# Altium footprint library NEW.PcbLib: 69 footprints (part 1 of 5)
Each footprint in its own frame and in the unit in brackets; x right, y up, seen from the top. Pads: shape width x height; smd on the part's side, far side on the other; paste and mask are expansions set on the pad; w line width, h text height; cw(c..) or ccw(c..) is an arc to the next point about the centre after c.
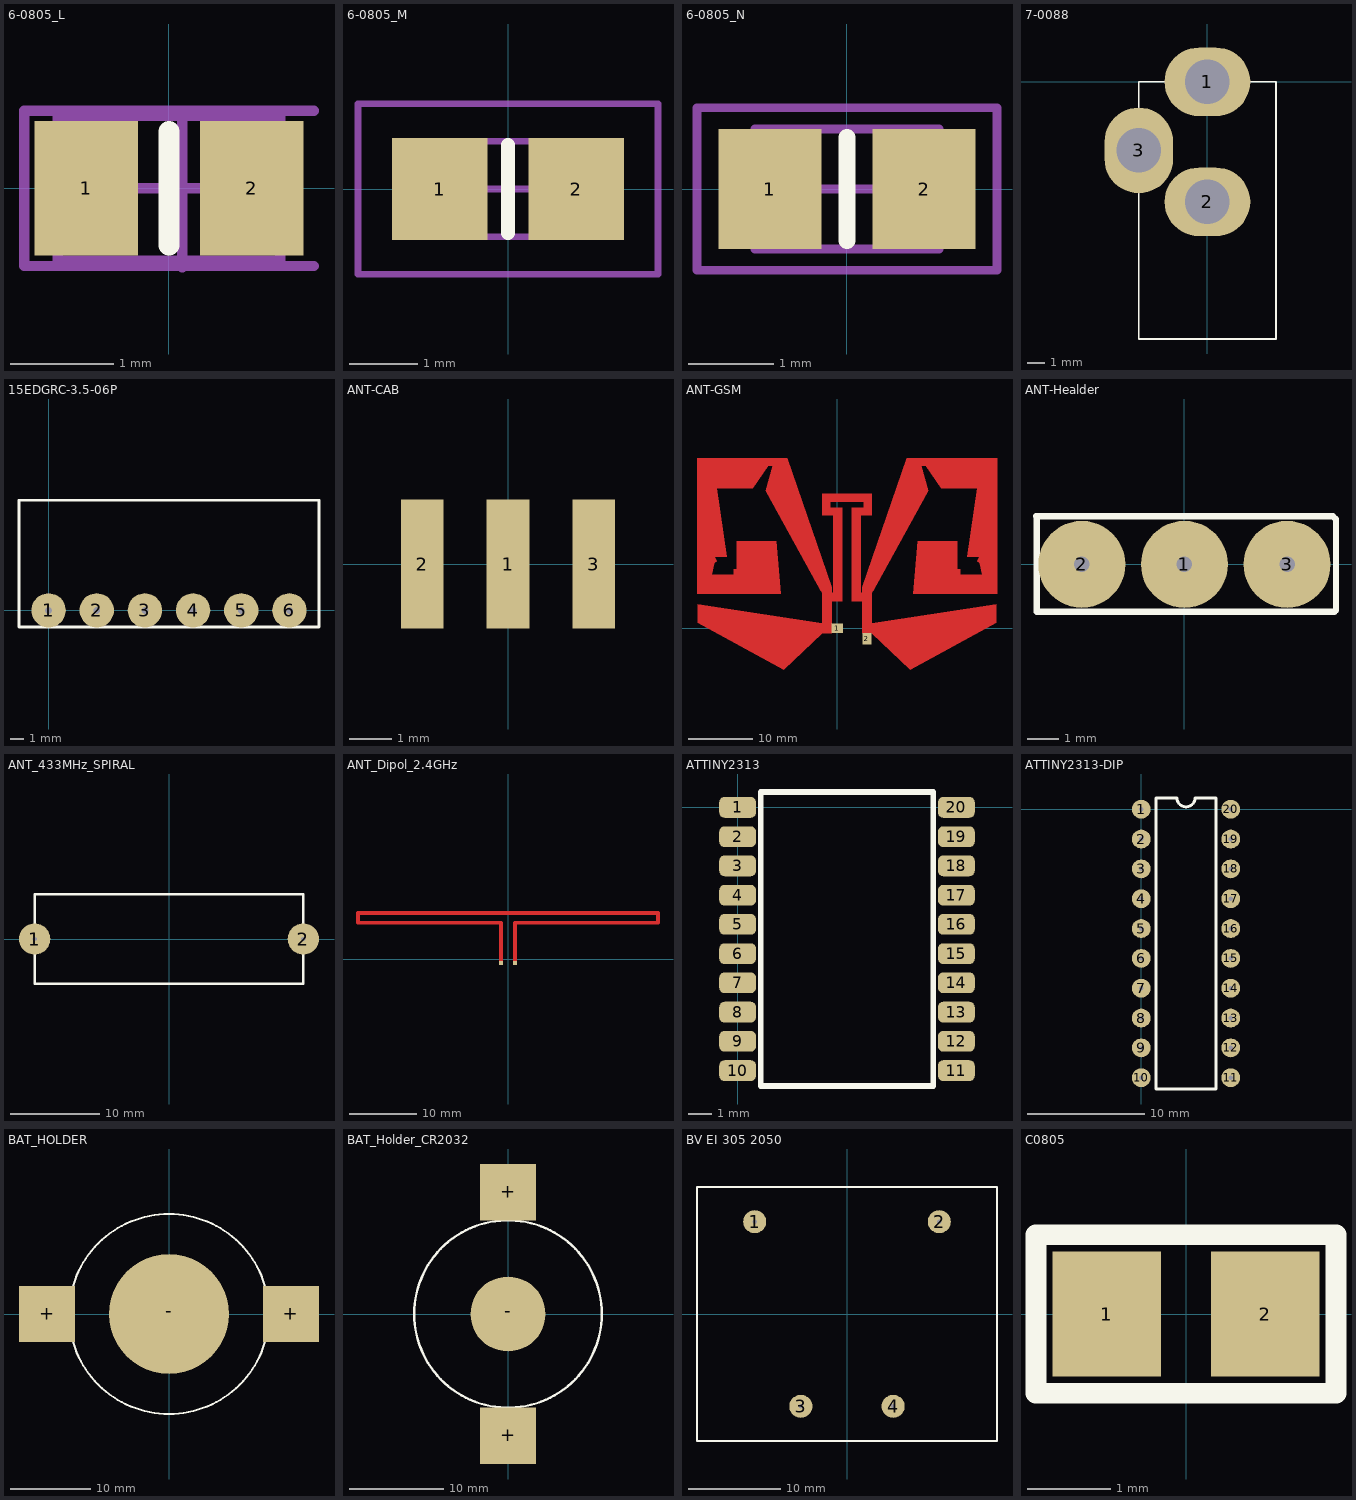
[diagram p0: the footprints below, top view; thin cyan lines are the x and y axes]

## 6-0805_L [mm] "Chip Resistor, Body 2.0x1.2mm, IPC High Density"
height 0.7
pads (2):
  rect 1x1.3 smd: 1(-0.8,0) 2(0.8,0)
Top Overlay:
  lines w0.2: 0,-0.55 0,0.55
Mechanical 13:
  lines w0.1: -1.075,-0.7 1.075,-0.7 1.075,0.7 -1.075,0.7 -1.075,-0.7
Mechanical 15:
  lines w0.1: -0.5,0 0.5,0 ; 0,-0.5 0,0.5 ; 0.127,-0.762 0.127,0.738 ; 1.4,-0.75 -1.4,-0.75 -1.4,0.75 1.4,0.75
3D body: height 0.7, standoff 0, extent -1.075,-0.7 1.075,0.7

## 6-0805_M [mm] "Chip Resistor, Body 2.0x1.2mm, IPC Low Density"
height 0.7
pads (2):
  rect 1.4x1.5 smd: 1(-1,0) 2(1,0)
Top Overlay:
  lines w0.2: 0,-0.65 0,0.65
Mechanical 13:
  lines w0.1: -1.075,-0.7 1.075,-0.7 1.075,0.7 -1.075,0.7 -1.075,-0.7
Mechanical 15:
  lines w0.1: -0.5,0 0.5,0 ; 0,-0.5 0,0.5 ; -2.2,-1.25 2.2,-1.25 2.2,1.25 -2.2,1.25 -2.2,-1.25
3D body: height 0.7, standoff 0, extent -1.075,-0.7 1.075,0.7

## 6-0805_N [mm] "Chip Resistor, Body 2.0x1.2mm, IPC Medium Density"
height 0.7
pads (2):
  rect 1.2x1.4 smd: 1(-0.9,0) 2(0.9,0)
Top Overlay:
  lines w0.2: 0,-0.6 0,0.6
Mechanical 13:
  lines w0.1: -1.075,-0.7 1.075,-0.7 1.075,0.7 -1.075,0.7 -1.075,-0.7
Mechanical 15:
  lines w0.1: -0.5,0 0.5,0 ; 0,-0.5 0,0.5 ; -1.75,-0.95 1.75,-0.95 1.75,0.95 -1.75,0.95 -1.75,-0.95
3D body: height 0.7, standoff 0, extent -1.075,-0.7 1.075,0.7

## 7-0088 [mm]
pads (3):
  oval 5x4 hole 2.6: 1(0,0) 2(0,-7)
  oval 4x5 hole 2.6: 3(-4,-4)
Top Overlay:
  lines w0.1: -4,-15 4,-15 4,0 -4,0 -4,-15

## 15EDGRC-3.5-06P [mm]
height 7
pads (6):
  round 2.5 hole 0.5 unplated: 1(0,0) 2(3.5,0) 3(7,0) 4(10.5,0) 5(14,0) 6(17.5,0)
Top Overlay:
  lines w0.2: -2.15,-1.2 19.65,-1.2 19.65,8 -2.15,8 -2.15,-1.2
3D body: height 7, standoff 0, extent -2.1,-1.2 19.6,8

## ANT-CAB [mm]
pads (3):
  rect 1x3 smd: 1(0,0) 2(-2,0) 3(2,0)

## ANT-GSM [mm]
pads (2):
  rect 1.75x1.45 smd: 1(0,0)
  rect 1.45x1.75 smd: 2(4.6,-1.6)
Top Layer:
  region: -21.8,5.4 -8.8,5.4 -9.5,13.5 -15.6,13.5 -15.6,9.2 -16.1,9.2 -16.1,8.3 -19.5,8.3 -19.15,10.1 -18.75,10.45 -19.05,11.1 -17.2,11.1 -18.75,21.75 -13.15,21.75 -10.75,25.25 -10.05,25.25 -11.15,21.4 -2.55,5.85 -2.35,5.5 -0.9,5.5 -0.9,6.35 -7.8,26.4 -21.8,26.4
  region: 24.8,26.4 10.8,26.4 3.9,6.35 3.9,5.5 5.35,5.5 5.55,5.85 14.15,21.4 13.05,25.25 13.75,25.25 16.15,21.75 21.75,21.75 20.2,11.1 22.05,11.1 21.75,10.45 22.15,10.1 22.5,8.3 19.1,8.3 19.1,9.2 18.6,9.2 18.6,13.5 12.5,13.5 11.8,5.4 24.8,5.4
  region: -8.3,-6.4 -2.35,-0.75 -2.35,0.8 -21.65,3.75 -21.65,0.9
  region: 24.65,0.9 24.65,3.75 5.35,0.8 5.35,-0.75 11.3,-6.4
  region: -2.35,5.5 -2.35,-0.75 -0.85,-0.75 -0.85,4.25 0.75,4.25 0.75,18.75 -1.1,18.75 -1.1,19.65 1.25,19.65 4.1,19.65 4.1,18.75 2.25,18.75 2.25,4.25 3.85,4.25 3.85,-0.75 5.35,-0.75 5.35,5.5 3.6,5.5 3.6,17.6 5.35,17.6 5.35,17.65 5.35,17.9 5.35,18.85 5.35,19.35 5.35,19.85 5.35,20.9 -2.35,20.9 -2.35,17.6 -0.6,17.6 -0.6,5.5

## ANT-Healder [mm]
pads (3):
  round 2.8 hole 0.5 unplated: 1(0,0) 2(-3.3,0) 3(3.3,0)
Top Overlay:
  lines w0.2: -4.775,1.55 4.775,1.55 4.875,1.45 4.875,-1.475 4.825,-1.525 -4.75,-1.525 -4.75,1.525 -4.775,1.55

## ANT_433MHz_SPIRAL [mm]
height 7
pads (2):
  round 3.5 hole 0.5: 1(-15,0) 2(15,0)
Top Overlay:
  lines w0.254: -15,-5 15,-5 15,5 -15,5 -15,-5

## ANT_Dipol_2.4GHz [mm]
pads (2):
  rect 0.58x0.58 smd: 1(-1.037,-0.6) 2(1.037,-0.6)
Top Layer:
  lines w0.58: -1.037,-0.6 -1.037,5.425 -22.35,5.425 -22.35,6.9 22.35,6.9 22.35,5.425 1.037,5.425 1.037,-0.6

## ATTINY2313 [mm]
pads (20):
  rrect50% 1.6x0.9 smd: 1(0,0) 2(0,-1.27) 3(0,-2.54) 4(0,-3.81) 5(0,-5.08) 6(0,-6.35) 7(0,-7.62) 8(0,-8.89) 9(0,-10.16) 10(0,-11.43) 11(9.5,-11.43) 12(9.5,-10.16) 13(9.5,-8.89) 14(9.5,-7.62) 15(9.5,-6.35) 16(9.5,-5.08) 17(9.5,-3.81) 18(9.5,-2.54) 19(9.5,-1.27) 20(9.5,0)
Top Overlay:
  lines w0.254: 1.005,-12.105 8.495,-12.105 8.495,0.675 1.005,0.675 1.005,-12.105

## ATTINY2313-DIP [mm]
pads (20):
  round 1.6 hole 0.4: 1(0,0) 2(0,-2.54) 3(0,-5.08) 4(0,-7.62) 5(0,-10.16) 6(0,-12.7) 7(0,-15.24) 8(0,-17.78) 9(0,-20.32) 10(0,-22.86) 11(7.62,-22.86) 12(7.62,-20.32) 13(7.62,-17.78) 14(7.62,-15.24) 15(7.62,-12.7) 16(7.62,-10.16) 17(7.62,-7.62) 18(7.62,-5.08) 19(7.62,-2.54) 20(7.62,0)
Top Overlay:
  lines w0.254: 1.27,-23.82 6.35,-23.82 6.35,0.96 4.572,0.96 cw(c3.81,0.96) 3.048,0.96 1.27,0.96 1.27,-23.82

## BAT_HOLDER [mm] "KEYS3006"
height 4
pads (3):
  rect 7x7 smd: +(-15.25,0) +(15.25,0)
  round 15 smd: -(0,0)
Top Overlay:
  circle w0.254: c0,0 r12.5

## BAT_Holder_CR2032 [mm] "BTH-W39-20"
height 3.8
pads (3):
  rect 6x6 smd: +(0,-13) +(0,13)
  round 8 smd: -(0,0)
Top Overlay:
  circle w0.254: c0,0 r10

## BV EI 305 2050 [mm]
height 30
pads (4):
  round 2.5 hole 0.5 unplated: 1(-10,10) 2(10,10) 3(-5,-10) 4(5,-10)
Top Overlay:
  lines w0.2: -16.25,-13.75 16.25,-13.75 16.25,13.75 -16.25,13.75 -16.25,-13.75
3D body: height 29.5, standoff 0, extent -16.25,-13.75 16.25,13.75

## C0805 [mm]
pads (2):
  rect 1.3x1.5 smd: 1(-0.95,0) 2(0.95,0)
Top Overlay:
  lines w0.25: -1.8,-0.95 1.8,-0.95 1.8,0.95 -1.8,0.95 -1.8,-0.95